# EAGLE library part 74*193 (library 74xx-eu)
Synchronous 4-Bit Binary Counter with Dual Clock
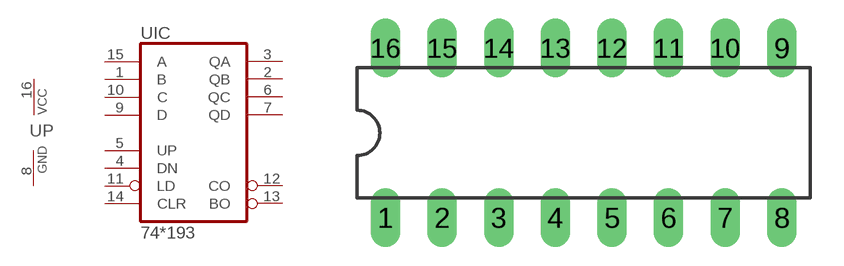
[diagram p332: symbol with the pads of DIL16; footprint DIL16]

Designator prefix -; gates IC=74193 P=PWRN

## 74193, 74HCT193  [DIL16]
1  IC:B  in
2  IC:QB  out
3  IC:QA  out
4  IC:DN  in
5  IC:UP  in
6  IC:QC  out
7  IC:QD  out
8  P:GND  pwr
9  IC:D  in
10  IC:C  in
11  IC:LD  in
12  IC:CO  out
13  IC:BO  out
14  IC:CLR  in
15  IC:A  in
16  P:VCC  pwr

## Footprint DIL16 (pad centres in mm)
Dual In Line Package
drill 0.813 long: 1 -8.89,-3.81; 2 -6.35,-3.81; 3 -3.81,-3.81; 4 -1.27,-3.81; 5 1.27,-3.81; 6 3.81,-3.81; 7 6.35,-3.81; 8 8.89,-3.81; 9 8.89,3.81; 10 6.35,3.81; 11 3.81,3.81; 12 1.27,3.81; 13 -1.27,3.81; 14 -3.81,3.81; 15 -6.35,3.81; 16 -8.89,3.81